# EAGLE library part DS1338 (library JLB6_Processor)
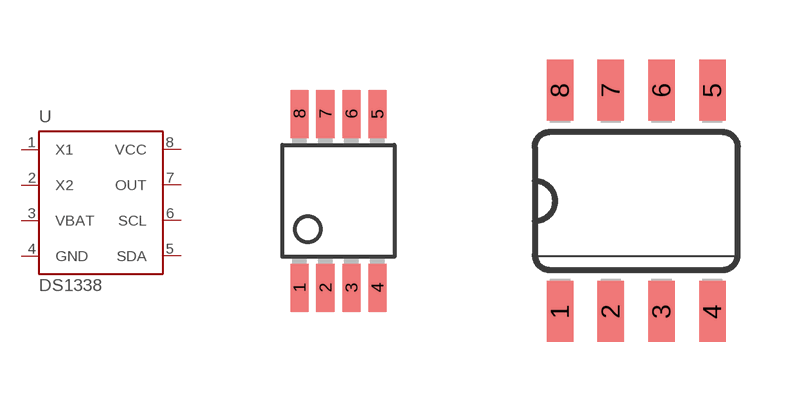
[diagram p7: symbol with the pads of UMAX8; footprints UMAX8, SO08]

Designator prefix U

## DS1338  [UMAX8]
1  X1
2  X2
3  VBAT  pas
4  GND  pas
5  SDA
6  SCL  in
7  OUT  out
8  VCC  pas

## DS1338SO  [SO08]
Pads as for UMAX8

## Footprint UMAX8 (pad centres in mm)
micro MAX Package
smd 0.45 x 1.2: 1 -0.975,-2.175; 2 -0.325,-2.175; 3 0.325,-2.175; 4 0.975,-2.175; 5 0.975,2.175; 6 0.325,2.175; 7 -0.325,2.175; 8 -0.975,2.175

## Footprint SO08 (pad centres in mm)
Small Outline Package
smd 0.66 x 1.524: 1 -1.905,-2.769; 2 -0.635,-2.769; 3 0.635,-2.769; 4 1.905,-2.769; 5 1.905,2.769; 6 0.635,2.769; 7 -0.635,2.769; 8 -1.905,2.769